# EAGLE library part 4D03WGJ0101T5E_LCSC (library lcsc_parts)
Description: 4 ±5% 100Ω 62.5mW ±200ppm/℃ 0603x4 Resistor Networks, Arrays RoHS Manufacturer: UNI-ROYAL MPN: 4D03WGJ0101T5E LCSC Part: C25506 Category: Resistor Networks, Arrays Datasheet: https://datasheet.lcsc.com/datasheet/pdf/27ea7f29d169b3fd0e42802e546ced43.pdf?productCode=C25506
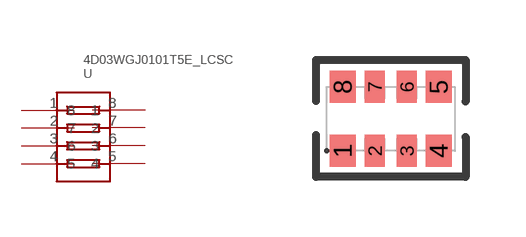
[diagram p29: symbol with the pads of RES-ARRAY-SMD_0603-8P-L3.2-W1.6-BL; footprint RES-ARRAY-SMD_0603-8P-L3.2-W1.6-BL]

Designator prefix U

## 4D03WGJ0101T5E_LCSC (CATEGORY: Resistor Networks, Arrays; DATASHEET: https://datasheet.lcsc.com/datasheet/pdf/27ea7f29d169b3fd0e42802e546ced43.pdf?productCode=C25506; DESCRIPTION: 4 ±5% 100Ω 62.5mW ±200ppm/℃ 0603x4 Resistor Networks, Arrays RoHS; LCSC_PART: C25506; LCSC_STOCK: 153600; MANUFACTURER: UNI-ROYAL; MPN: 4D03WGJ0101T5E; NUMBER_OF_PINS: 8; NUMBER_OF_RESISTORS: 4; PARTNO: 4D03WGJ0101T5E; POWER_WATTS: 62.5mW; PRICING_1000: $0.0105/unit @ 1000; PRICING_50: $0.0118/unit @ 50; RESISTANCE: 100Ω; TEMPERATURE_COEFFICIENT: ±200ppm/℃; TOLERANCE: ±5%)  [RES-ARRAY-SMD_0603-8P-L3.2-W1.6-BL]
1  1  in
2  2  in
3  3  in
4  4  in
5  5  in
6  6  in
7  7  in
8  8  in

## Footprint RES-ARRAY-SMD_0603-8P-L3.2-W1.6-BL (pad centres in mm)
smd 0.65 x 0.8: 1 -1.2,-0.8; 4 1.2,-0.8; 5 1.2,0.8; 8 -1.2,0.8
smd 0.5 x 0.8: 2 -0.4,-0.8; 3 0.4,-0.8; 6 0.4,0.8; 7 -0.4,0.8